# EAGLE library part SMD-RES-ARRAY-10K(RA1206-8) (library Seeed-OPL-Resistor)
301030002
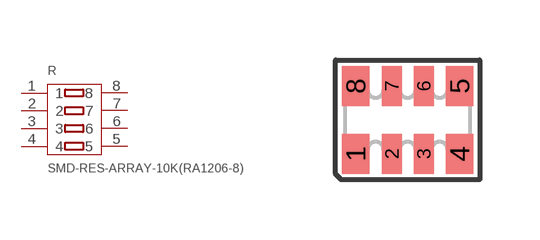
[diagram p3: symbol with the pads of RA1206-8; footprint RA1206-8]

Designator prefix R

## SMD-RES-ARRAY-10K(RA1206-8) (VALUE: 10K)  [RA1206-8]
1  1
2  2
3  3
4  4
5  5
6  6
7  7
8  8

## Footprint RA1206-8 (pad centres in mm)
BOURNS Chip Resistor Array Source: RS Component / BUORNS
smd 0.7 x 1: 1 -1.3,-0.85; 4 1.3,-0.85; 5 1.3,0.85; 8 -1.3,0.85
smd 0.5 x 1: 2 -0.4,-0.85; 3 0.4,-0.85; 6 0.4,0.85; 7 -0.4,0.85